# EAGLE library part AD9901 (library analog-devices)
Ultrahigh Speed Phase/Frequency Discrimainator Phase-Locked-Loop Source: 36342005AD9901_b.pdf
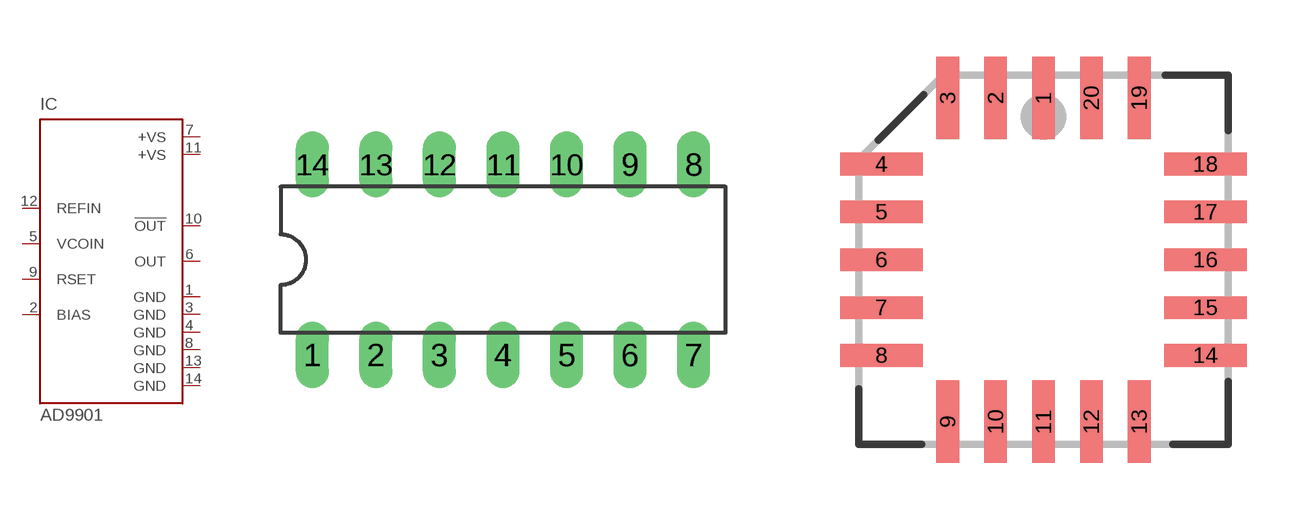
[diagram p54: symbol with the pads of DIL14; footprints DIL14, PLCC20]

Designator prefix IC

## AD9901P  [DIL14]
1  GND  in
2  BIAS  in
3  GND  in
4  GND  in
5  VCOIN  in
6  OUT  in
7  +VS  in
8  GND  in
9  RSET  in
10  !OUT  in
11  +VS  in
12  REFIN  out
13  GND  in
14  GND  in

## AD9901PL  [PLCC20]
2  GND  in
3  BIAS  in
4  GND  in
5  GND  in
6  VCOIN  in
7  OUT  in
10  +VS  in
12  GND  in
13  RSET  in
14  !OUT  in
16  +VS  in
18  REFIN  out
19  GND  in
20  GND  in

## AD9901LC  [LCC20]
2  GND  in
3  BIAS  in
4  GND  in
6  GND  in
8  VCOIN  in
9  OUT  in
10  +VS  in
12  GND  in
13  RSET  in
14  !OUT  in
16  +VS  in
18  REFIN  out
19  GND  in
20  GND  in

## Footprint DIL14 (pad centres in mm)
Dual In Line Package
drill 0.813 long: 1 -7.62,-3.81; 2 -5.08,-3.81; 3 -2.54,-3.81; 4 0,-3.81; 5 2.54,-3.81; 6 5.08,-3.81; 7 7.62,-3.81; 8 7.62,3.81; 9 5.08,3.81; 10 2.54,3.81; 11 0,3.81; 12 -2.54,3.81; 13 -5.08,3.81; 14 -7.62,3.81

## Footprint PLCC20 (pad centres in mm)
Plastic Leaded Chip Carrier IPC standard
smd 0.6 x 2.2: 1 0,4.3; 2 -1.27,4.3; 3 -2.54,4.3; 9 -2.54,-4.3; 10 -1.27,-4.3; 11 0,-4.3; 12 1.27,-4.3; 13 2.54,-4.3; 19 2.54,4.3; 20 1.27,4.3
smd 2.2 x 0.6: 4 -4.3,2.54; 5 -4.3,1.27; 6 -4.3,0; 7 -4.3,-1.27; 8 -4.3,-2.54; 14 4.3,-2.54; 15 4.3,-1.27; 16 4.3,0; 17 4.3,1.27; 18 4.3,2.54

## Footprint LCC20 (pad centres in mm)
PLASTIC LEADED CHIP CARRIER
smd 0.8 x 3.4: 1 0,3.8
smd 0.8 x 2: 2 -1.27,4.5; 3 -2.54,4.5; 9 -2.54,-4.5; 10 -1.27,-4.5; 11 0,-4.5; 12 1.27,-4.5; 13 2.54,-4.5; 19 2.54,4.5; 20 1.27,4.5
smd 2 x 0.8: 4 -4.5,2.54; 5 -4.5,1.27; 6 -4.5,0; 7 -4.5,-1.27; 8 -4.5,-2.54; 14 4.5,-2.54; 15 4.5,-1.27; 16 4.5,0; 17 4.5,1.27; 18 4.5,2.54